# Altium schematic symbol library 14-FLASH_ROM_lib.SchLib: 3 symbols
Pins are listed as number, name and electrical type; pins without a type are passive.

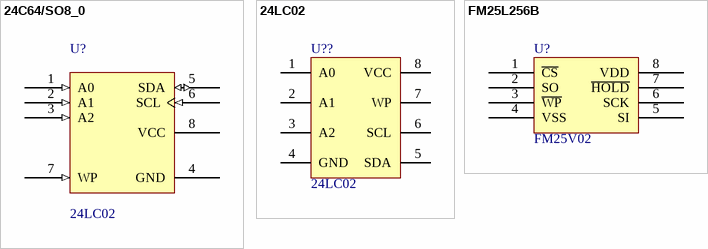
[diagram p0: symbols 24C64/SO8_0 to FM25L256B]

## 24C64/SO8_0
designator U?, comment 24LC02
Text Field1: 70; Text Field2: 80
footprint SO-8
footprint SO-8
pins: 1 A0 (in), 2 A1 (in), 3 A2 (in), 4 GND (power), 5 SDA (io), 6 SCL (in), 7 WP (in), 8 VCC (power)

## 24LC02
designator U??
footprint SO-8
pins: 1 A0, 2 A1, 3 A2, 4 GND, 5 SDA, 6 SCL, 7 WP, 8 VCC

## FM25L256B
designator U?, comment FM25V02
footprint SO-8
pins: 1 ~{CS}, 2 SO, 3 ~{WP}, 4 VSS, 5 SI, 6 SCK, 7 ~{HOLD}, 8 VDD
2 alternate drawings of the same symbol